# Altium schematic symbol library ABS06-32.768KHZ-9-1-T.SchLib: 1 symbol
Pins are listed as number, name and electrical type; pins without a type are passive.

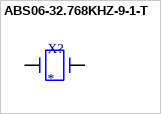
[diagram p0: symbol ABS06-32.768KHZ-9-1-T]

## ABS06-32.768KHZ-9-1-T
designator X?
pins: 1, 2